# EAGLE library part OPA548T (library burr-brown)
High-Voltage, High-Current Operational Amplifier
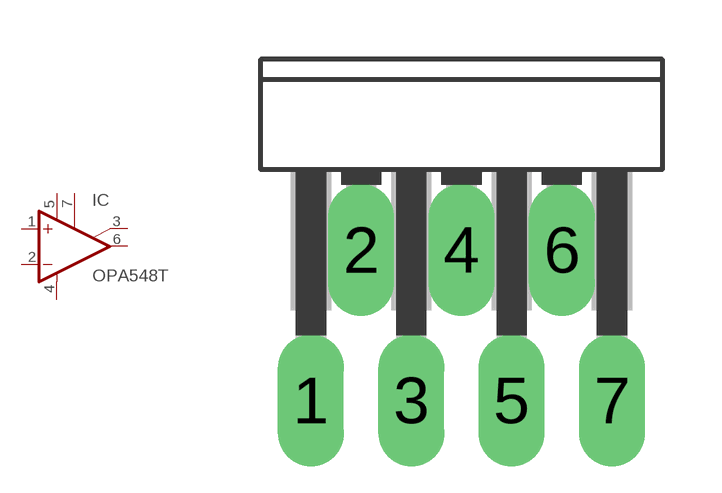
[diagram p81: symbol with the pads of TO220/7; footprint TO220/7]

Designator prefix IC

## OPA548T  [TO220/7]
1  +IN  in
2  -IN  in
3  ILIM  in
4  V-  pwr
5  V+  pwr
6  OUT  out
7  E/S

## Footprint TO220/7 (pad centres in mm)
drill 1.118 pad 1.626 long: 1 -3.81,-8.636; 2 -2.54,-4.826; 3 -1.27,-8.636; 4 0,-4.826; 5 1.27,-8.636; 6 2.54,-4.826; 7 3.81,-8.636